# Altium footprint library auto_threader_lib.PcbLib: 21 footprints (part 1 of 2)
Each footprint in its own frame and in the unit in brackets; x right, y up, seen from the top. Pads: shape width x height; smd on the part's side, far side on the other; paste and mask are expansions set on the pad; w line width, h text height; cw(c..) or ccw(c..) is an arc to the next point about the centre after c.
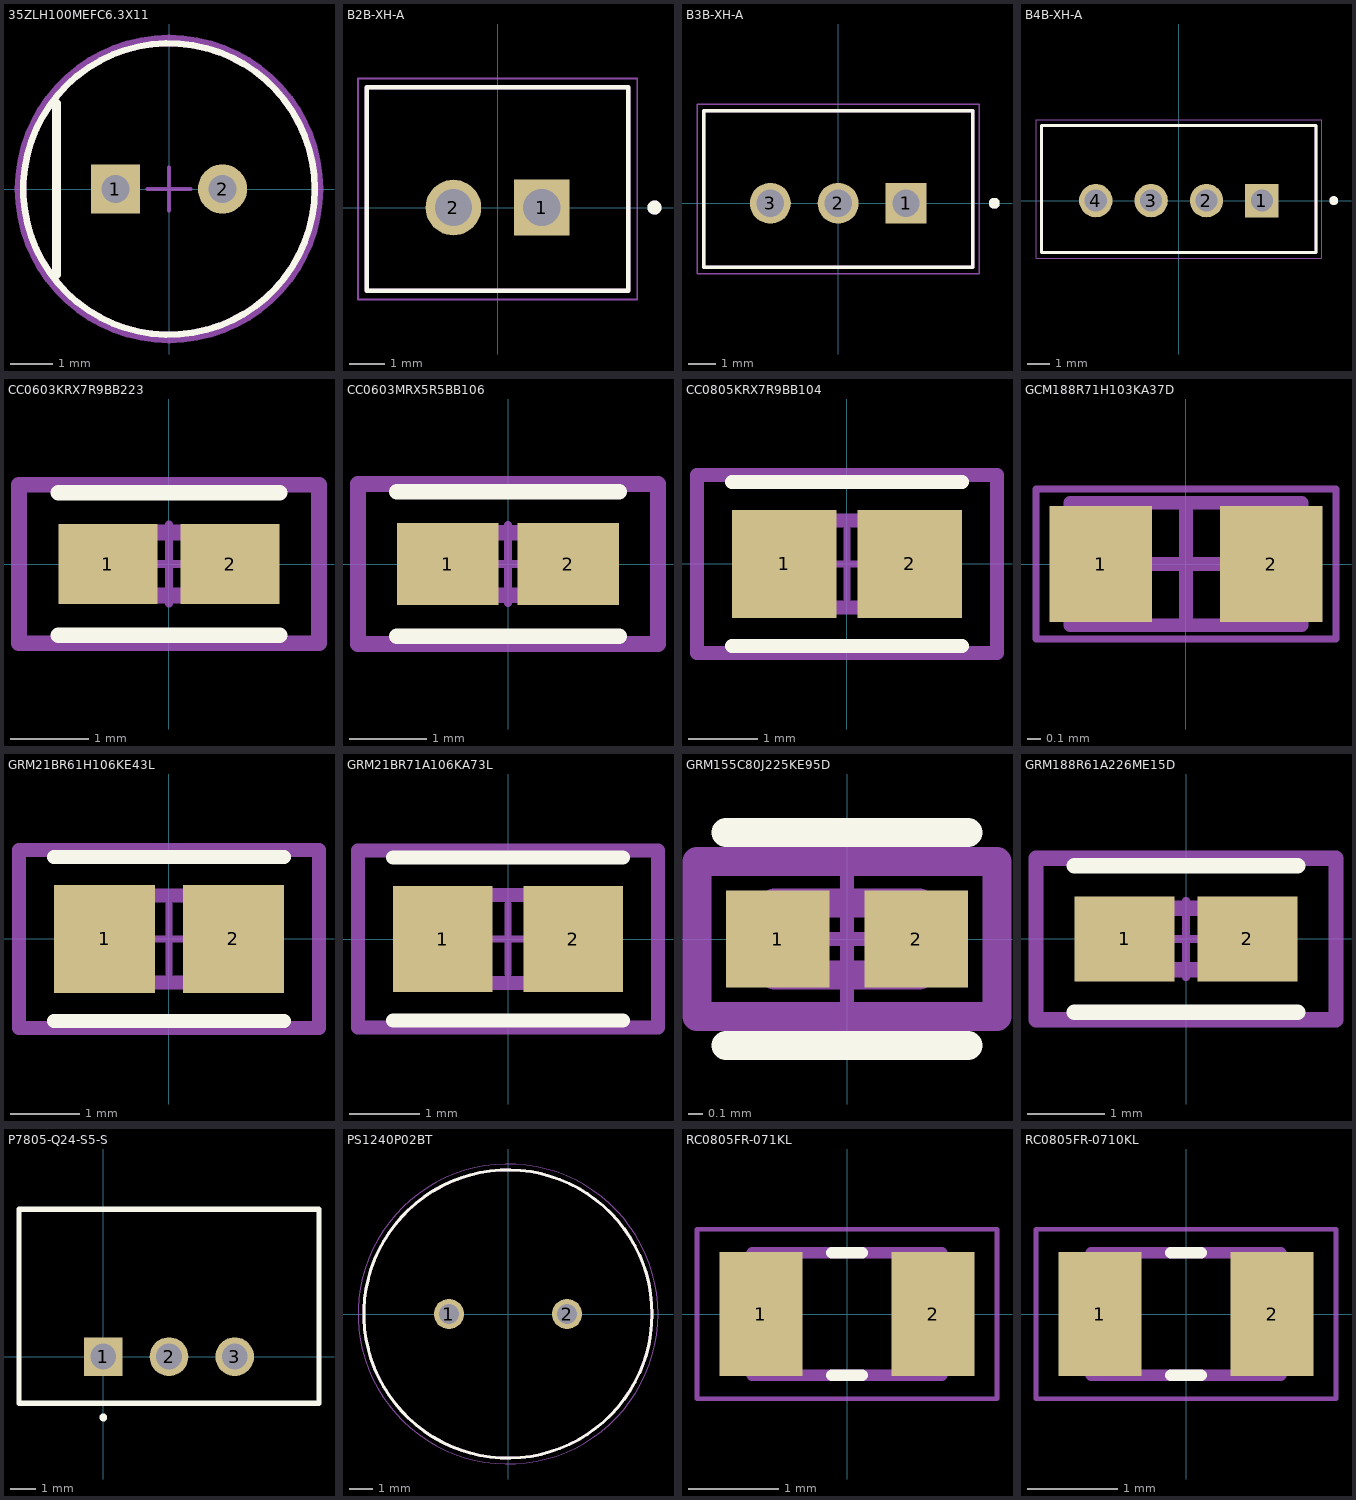
[diagram p0: the footprints below, top view; thin cyan lines are the x and y axes]

## 35ZLH100MEFC6.3X11 [mm]
pads (2):
  rect 1.15x1.15 hole 0.65 paste-2539.97 mask+0: 1(-1.25,0)
  round 1.15 hole 0.65 paste-2539.97 mask+0: 2(1.25,0)
Top Overlay:
  circle w0.15: c0,0 r3.4
  lines w0.2: -2.625,-2 -2.625,2
Top Assembly:
  lines w0.2: -3.5,0 ccw(c0,0) 3.5,0 ccw(c0,0) -3.5,0
  text ".Designator" at 0,0.188 h1
Top 3D Body:
  circle w0.15: c0,0 r3.4
Top Component Center:
  lines w0.1: -0.5,0 0.5,0 ; 0,-0.5 0,0.5
3D body "Cap_Rubycon_35ZLH100MEFC6_3X11_eec.STEP": height 0.25, standoff 0, extent -3.5,-3.5 3.5,3.5

## B2B-XH-A [mm]
pads (2):
  rect 1.575x1.575 / inner round 1.575 / far side rect 1.575x1.575 hole 1.05: 1(1.25,0)
  round 1.575 hole 1.05: 2(-1.25,0)
Top Overlay:
  circle w0.2: c4.44,0 r0.1
  lines w0.127: -3.7,-2.35 3.7,-2.35 3.7,3.4 -3.7,3.4 -3.7,-2.35
Mechanical 13:
  circle w0.2: c4.44,0 r0.1
  lines w0.127: -3.7,-2.35 3.7,-2.35 3.7,3.4 -3.7,3.4 -3.7,-2.35
Mechanical 15:
  lines w0.05: -3.95,-2.6 -3.95,3.65 3.95,3.65 3.95,-2.6 -3.95,-2.6
3D body "B2B-XH-A--3DModel-STEP-56544.STEP": height 7.01, standoff -3.39, extent -3.7,-2.35 3.7,3.4

## B3B-XH-A [mm]
pads (3):
  rect 1.508x1.508 / inner round 1.508 / far side rect 1.508x1.508 hole 1 mask+0.102: 1(2.5,0)
  round 1.508 hole 1 mask+0.102: 2(0,0) 3(-2.5,0)
Top Overlay:
  circle w0.2: c5.75,0 r0.1
  lines w0.127: -4.95,-2.35 4.95,-2.35 4.95,3.4 -4.95,3.4 -4.95,-2.35
Mechanical 13:
  circle w0.2: c5.75,0 r0.1
  lines w0.127: -4.95,-2.35 4.95,-2.35 4.95,3.4 -4.95,3.4 -4.95,-2.35
Mechanical 15:
  lines w0.05: -5.2,-2.6 5.2,-2.6 5.2,3.65 -5.2,3.65 -5.2,-2.6
3D body "step_temp.STEP": height 7, standoff -3.4, extent -4.95,-2.35 4.95,3.4

## B4B-XH-A [mm]
pads (4):
  rect 1.508x1.508 / inner round 1.508 / far side rect 1.508x1.508 hole 1: 1(3.75,0)
  round 1.508 hole 1: 2(1.25,0) 3(-1.25,0) 4(-3.75,0)
Top Overlay:
  circle w0.2: c7,0 r0.1
  lines w0.127: -6.2,-2.35 6.2,-2.35 6.2,3.4 -6.2,3.4 -6.2,-2.35
Mechanical 13:
  circle w0.2: c7,0 r0.1
  lines w0.127: -6.2,-2.35 6.2,-2.35 6.2,3.4 -6.2,3.4 -6.2,-2.35
Mechanical 15:
  lines w0.05: -6.45,-2.6 6.45,-2.6 6.45,3.65 -6.45,3.65 -6.45,-2.6
3D body "step_temp.STEP": height 7, standoff -3.4, extent -6.2,-2.35 6.2,3.4

## CC0603KRX7R9BB223 [mm]
pads (2):
  rect 1.258x1.012 smd paste+0 mask+0: 1(-0.777,0) 2(0.777,0)
Top Overlay:
  lines w0.2: -1.406,-0.906 1.406,-0.906 ; -1.406,0.906 1.406,0.906
Top Assembly:
  lines w0.2: -1.906,-1.006 -1.906,1.006 ; -1.906,-1.006 1.906,-1.006 ; -1.906,-1.006 -1.906,1.006 ; -1.906,-1.006 1.906,-1.006 ; -1.906,1.006 1.906,1.006 ; -1.906,1.006 1.906,1.006 ; 1.906,-1.006 1.906,1.006 ; 1.906,-1.006 1.906,1.006
  text ".Designator" at 0,0.188 h1
Top 3D Body:
  lines w0.2: -0.8,-0.4 -0.8,0.4 0.8,0.4 0.8,-0.4 -0.8,-0.4
Top Component Center:
  lines w0.1: -0.5,0 0.5,0 ; 0,-0.5 0,0.5
3D body "Cap_Yageo_CC0603KRX7R5BB104_eec.STEP": height 0.25, standoff 0, extent -1.906,-1.006 1.906,1.006

## CC0603MRX5R5BB106 [mm]
pads (2):
  rect 1.306x1.058 smd paste+0 mask+0: 1(-0.776,0) 2(0.776,0)
Top Overlay:
  lines w0.2: -1.429,-0.929 1.429,-0.929 ; -1.429,0.929 1.429,0.929
Top Assembly:
  lines w0.2: -1.929,-1.029 1.929,-1.029 ; -1.929,-1.029 -1.929,1.029 ; -1.929,-1.029 1.929,-1.029 ; -1.929,-1.029 -1.929,1.029 ; -1.929,1.029 1.929,1.029 ; -1.929,1.029 1.929,1.029 ; 1.929,-1.029 1.929,1.029 ; 1.929,-1.029 1.929,1.029
  text ".Designator" at 0,0.188 h1
Top 3D Body:
  lines w0.2: -0.8,-0.4 0.8,-0.4 0.8,0.4 -0.8,0.4 -0.8,-0.4
Top Component Center:
  lines w0.1: -0.5,0 0.5,0 ; 0,-0.5 0,0.5
3D body "Cap_YAGEO_CC0603KRX7R9BB105_eec.STEP": height 0.25, standoff 0, extent -1.929,-1.029 1.929,1.029

## CC0805KRX7R9BB104 [mm]
pads (2):
  rect 1.505x1.556 smd paste+0 mask+0: 1(-0.901,0) 2(0.901,0)
Top Overlay:
  lines w0.2: -1.653,-1.178 1.653,-1.178 ; -1.653,1.178 1.653,1.178
Top Assembly:
  lines w0.2: -2.153,-1.278 -2.153,1.278 ; -2.153,-1.278 2.153,-1.278 ; -2.153,-1.278 -2.153,1.278 ; -2.153,-1.278 2.153,-1.278 ; -2.153,1.278 2.153,1.278 ; -2.153,1.278 2.153,1.278 ; 2.153,-1.278 2.153,1.278 ; 2.153,-1.278 2.153,1.278
  text ".Designator" at 0,0.188 h1
Top 3D Body:
  lines w0.2: -1,-0.625 -1,0.625 1,0.625 1,-0.625 -1,-0.625
Top Component Center:
  lines w0.1: -0.5,0 0.5,0 ; 0,-0.5 0,0.5
3D body "Cap_Yageo_CC0805KKX7R7BB105_eec.STEP": height 0.25, standoff 0, extent -2.153,-1.278 2.153,1.278

## GCM188R71H103KA37D [mm]
pads (2):
  rect 0.75x0.85 smd: 1(-0.625,0) 2(0.625,0)
Mechanical 13:
  lines w0.1: -0.85,-0.45 0.85,-0.45 0.85,0.45 -0.85,0.45 -0.85,-0.45
Mechanical 15:
  lines w0.05: -1.1,-0.55 1.1,-0.55 1.1,0.55 -1.1,0.55 -1.1,-0.55
  lines w0.1: -0.45,0 0.45,0 ; 0,-0.45 0,0.45
3D body: height 0.9, standoff 0, extent 0.5,-0.45 0.85,0.45
3D body: height 0.9, standoff 0, extent -0.85,-0.45 -0.5,0.45
3D body: height 0.9, standoff 0, extent -0.5,-0.45 0.5,0.45

## GRM21BR61H106KE43L [mm]
pads (2):
  rect 1.455x1.556 smd paste+0 mask+0: 1(-0.926,0) 2(0.926,0)
Top Overlay:
  lines w0.2: -1.653,-1.178 1.653,-1.178 ; -1.653,1.178 1.653,1.178
Top Assembly:
  lines w0.2: -2.153,-1.278 -2.153,1.278 ; -2.153,-1.278 2.153,-1.278 ; -2.153,-1.278 -2.153,1.278 ; -2.153,-1.278 2.153,-1.278 ; -2.153,1.278 2.153,1.278 ; -2.153,1.278 2.153,1.278 ; 2.153,-1.278 2.153,1.278 ; 2.153,-1.278 2.153,1.278
  text ".Designator" at 0,0.188 h1
Top 3D Body:
  lines w0.2: -1,-0.625 -1,0.625 1,0.625 1,-0.625 -1,-0.625
Top Component Center:
  lines w0.1: -0.5,0 0.5,0 ; 0,-0.5 0,0.5
3D body "Cap_Murata_GRM21BC71C106KE11L_eec.STEP": height 0.25, standoff 0, extent -2.153,-1.278 2.153,1.278

## GRM21BR71A106KA73L [mm]
pads (2):
  rect 1.406x1.508 smd paste+0 mask+0: 1(-0.926,0) 2(0.926,0)
Top Overlay:
  lines w0.2: -1.629,-1.154 1.629,-1.154 ; -1.629,1.154 1.629,1.154
Top Assembly:
  lines w0.2: -2.129,-1.254 -2.129,1.254 2.129,1.254 2.129,-1.254 -2.129,-1.254
  text ".Designator" at 0,0.188 h1
Top 3D Body:
  lines w0.2: -1,-0.625 -1,0.625 1,0.625 1,-0.625 -1,-0.625
Top Courtyard:
  lines w0.2: -2.129,-1.254 -2.129,1.254 2.129,1.254 2.129,-1.254 -2.129,-1.254
Top Component Center:
  lines w0.1: -0.5,0 0.5,0 ; 0,-0.5 0,0.5
3D body "Cap_Murata_GRM21BC81C106KA73L_eec.STEP": height 0.25, standoff 0, extent -2.129,-1.254 2.129,1.254

## GRM155C80J225KE95D [mm]
pads (2):
  rect 0.715x0.672 smd paste+0 mask+0: 1(-0.479,0) 2(0.479,0)
Top Overlay:
  lines w0.2: -0.836,-0.736 0.836,-0.736 ; -0.836,0.736 0.836,0.736
Top Assembly:
  lines w0.2: -1.036,-0.536 -1.036,0.536 ; -1.036,-0.536 1.036,-0.536 ; -1.036,-0.536 -1.036,0.536 ; -1.036,-0.536 1.036,-0.536 ; -1.036,0.536 1.036,0.536 ; -1.036,0.536 1.036,0.536 ; 1.036,-0.536 1.036,0.536 ; 1.036,-0.536 1.036,0.536
  text ".Designator" at 0,0.188 h1
Top 3D Body:
  lines w0.2: -0.5,-0.25 -0.5,0.25 0.5,0.25 0.5,-0.25 -0.5,-0.25
Top Component Center:
  lines w0.1: -0.5,0 0.5,0 ; 0,-0.5 0,0.5
3D body "Cap_Murata_GRM1552C1H271GA01J_eec.STEP": height 0.25, standoff 0, extent -1.036,-0.536 1.036,0.536

## GRM188R61A226ME15D [mm]
pads (2):
  rect 1.305x1.106 smd paste+0 mask+0: 1(-0.801,0) 2(0.801,0)
Top Overlay:
  lines w0.2: -1.453,-0.953 1.453,-0.953 ; -1.453,0.953 1.453,0.953
Top Assembly:
  lines w0.2: -1.953,-1.053 -1.953,1.053 ; -1.953,-1.053 1.953,-1.053 ; -1.953,-1.053 -1.953,1.053 ; -1.953,-1.053 1.953,-1.053 ; -1.953,1.053 1.953,1.053 ; -1.953,1.053 1.953,1.053 ; 1.953,-1.053 1.953,1.053 ; 1.953,-1.053 1.953,1.053
  text ".Designator" at 0,0.188 h1
Top 3D Body:
  lines w0.2: -0.8,-0.4 -0.8,0.4 0.8,0.4 0.8,-0.4 -0.8,-0.4
Top Component Center:
  lines w0.1: -0.5,0 0.5,0 ; 0,-0.5 0,0.5
3D body "Cap_Murata_GRM188C71C225KE11D_eec.STEP": height 0.25, standoff 0, extent -1.953,-1.053 1.953,1.053

## P7805-Q24-S5-S [mm]
pads (3):
  rect 1.5x1.5 hole 1: 1(0,0)
  round 1.5 hole 1: 2(2.54,0) 3(5.08,0)
Top Overlay:
  lines w0.2: 0,-2.4 ccw(c0,-2.35) 0,-2.3 ; 0,-2.4 cw(c0,-2.35) 0,-2.3 ; 0,-2.4 ccw(c0,-2.35) 0,-2.3 ; -3.26,-1.8 -3.26,5.7 8.34,5.7 8.34,-1.8 -3.26,-1.8
Mechanical 15:
  lines w0.1: -3.26,-1.8 -3.26,5.7 8.34,5.7 8.34,-1.8 -3.26,-1.8
3D body "P7805-Q24-S5-S.stp": height 10.21, standoff -4.09, extent -3.26,-1.8 8.34,5.7

## PS1240P02BT [mm]
pads (2):
  round 1.28 hole 0.85: 1(-2.5,0) 2(2.5,0)
Top Overlay:
  circle w0.127: c0,0 r6.1
Mechanical 13:
  circle w0.127: c0,0 r6.1
Mechanical 15:
  circle w0.05: c0,0 r6.35
3D body "PS1240P02BT.STEP": height 6.51, standoff -14.49, extent -6.1,-6.1 6.1,6.1

## RC0805FR-071KL [mm]
pads (2):
  rect 0.92x1.38 smd: 1(-0.955,0) 2(0.955,0)
Top Overlay:
  lines w0.127: -0.17,-0.68 0.17,-0.68 ; -0.17,0.68 0.17,0.68
Mechanical 13:
  lines w0.127: -1.05,-0.68 1.05,-0.68 1.05,0.68 -1.05,0.68 -1.05,-0.68
Mechanical 15:
  lines w0.05: -1.665,-0.94 1.665,-0.94 1.665,0.94 -1.665,0.94 -1.665,-0.94
3D body "step_temp.STEP": height 0.6, standoff 0, extent -1,-0.625 1,0.625

## RC0805FR-0710KL [mm]
pads (2):
  rect 0.92x1.38 smd: 1(-0.955,0) 2(0.955,0)
Top Overlay:
  lines w0.127: -0.17,-0.68 0.17,-0.68 ; -0.17,0.68 0.17,0.68
Mechanical 13:
  lines w0.127: -1.05,-0.68 -1.05,0.68 1.05,0.68 1.05,-0.68 -1.05,-0.68
Mechanical 15:
  lines w0.05: -1.665,-0.94 -1.665,0.94 1.665,0.94 1.665,-0.94 -1.665,-0.94
3D body "step_temp.STEP": height 0.6, standoff 0, extent -1,-0.625 1,0.625